# EAGLE library part TOP264-271 (library power_integrations)
Like TOPSwitch-HX, TOP264-271 is an integrated switched mode power supply chip that converts a current at the control input to a duty cycle at the open drain output of a high-voltage power MOSFET.
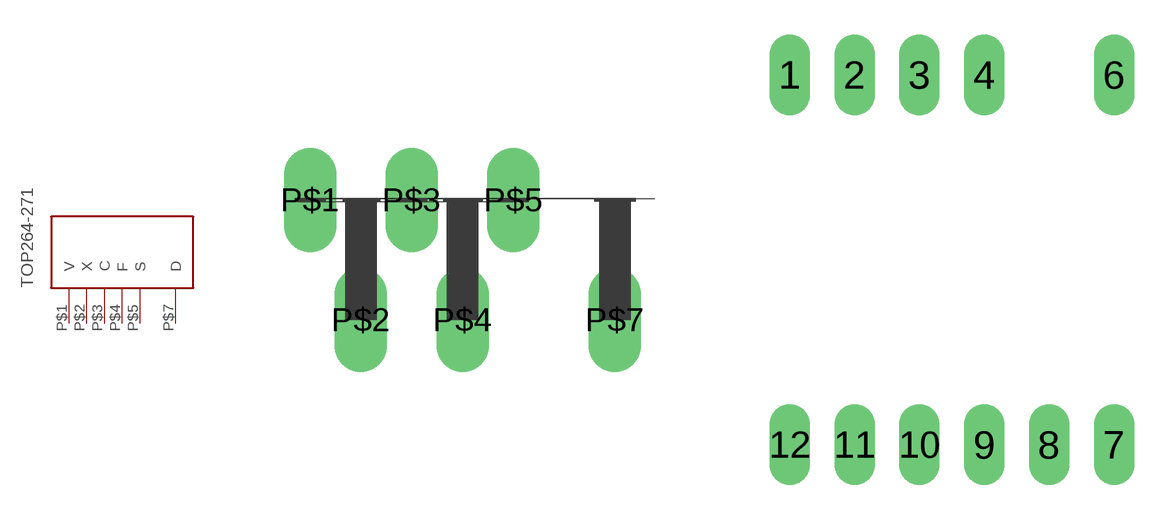
[diagram p15: symbol with the pads of SIP-E-7C(E_PACKAGE); footprints SIP-E-7C(E_PACKAGE), DIP-E-12B(V_PACKAGE)]

Designator prefix IC

## TOP264-271  [SIP-E-7C(E_PACKAGE)]
P$1  V
P$2  X
P$3  C
P$4  F
P$5  S
P$7  D

## TOP264-271DIP-E-12B  [DIP-E-12B(V_PACKAGE)]
1  V
2  X
3  C
4  F
6  D
9  S

## TOP264-271SOP-E-12B  [SOP-E-12B(K_PACKAGE)]
P$1  V
P$2  X
P$3  C
P$4  F
P$6  D
P$10  S

## Footprint SIP-E-7C(E_PACKAGE) (pad centres in mm)
drill 0.8 long: P$1 -3.81,1.5; P$2 -2.54,-1.5; P$3 -1.27,1.5; P$4 0,-1.5; P$5 1.27,1.5; P$7 3.81,-1.5

## Footprint DIP-E-12B(V_PACKAGE) (pad centres in mm)
drill 0.6 pad 1.016 long: 1 -4.45,5.08; 2 -2.67,5.08; 3 -0.89,5.08; 4 0.89,5.08; 6 4.45,5.08; 7 4.45,-5.08; 8 2.67,-5.08; 9 0.89,-5.08; 10 -0.89,-5.08; 11 -2.67,-5.08; 12 -4.45,-5.08

## Footprint SOP-E-12B(K_PACKAGE) (pad centres in mm)
smd 5.51 x 8.15: GND 0,0
smd 1.7 x 0.71: P$1 -5.45,4.45; P$2 -5.45,2.67; P$3 -5.45,0.89; P$4 -5.45,-0.89; P$6 -5.45,-4.45; P$7 5.45,-4.45; P$8 5.45,-2.67; P$9 5.45,-0.89; P$10 5.45,0.89; P$11 5.45,2.67; P$12 5.45,4.45